# Altium integrated library JQC-3FF-S-Z.IntLib: 1 symbol
Pins are listed as number, name and electrical type; pins without a type are passive.

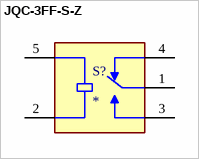
[diagram p0: symbol JQC-3FF-S-Z]

## JQC-3FF-S-Z
designator S?
10 Switch Capability Relay; MF: Tongling; MP: JQC-3FF-S-Z; SnapEDA_Link: https://www.snapeda.com/parts/JQC-3FF-S-Z/Tongling/view-part/?ref=snap; Package: Package; Value: *; Check_prices: https://www.snapeda.com/parts/JQC-3FF-S-Z/Tongling/view-part/?ref=eda
footprint SW_JQC-3FF-S-Z
pins: 1 COM, 2 COIL2, 3 NO, 4 NC, 5 COIL1